# Altium footprint library SamacSys.PcbLib: 3 footprints
Each footprint in its own frame and in the unit in brackets; x right, y up, seen from the top. Pads: shape width x height; smd on the part's side, far side on the other; paste and mask are expansions set on the pad; w line width, h text height; cw(c..) or ccw(c..) is an arc to the next point about the centre after c.
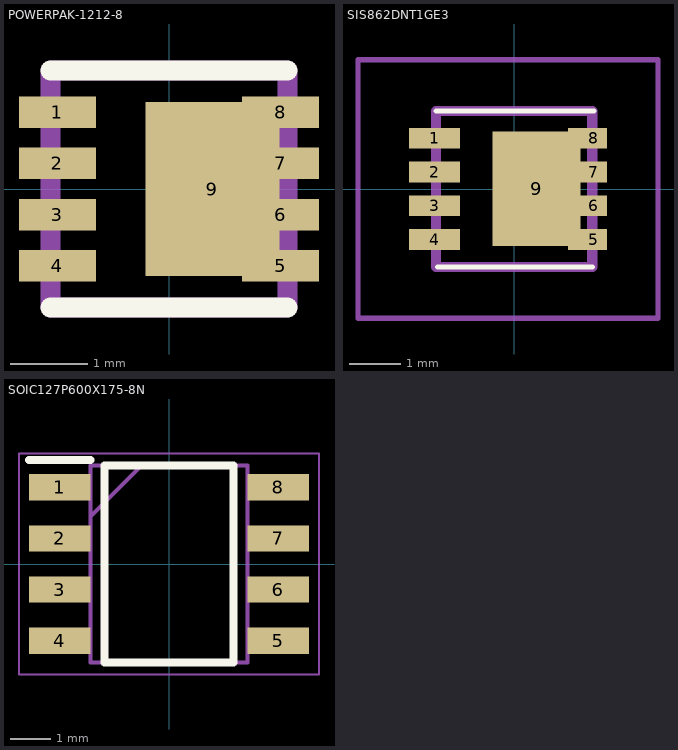
[diagram p0: the footprints below, top view; thin cyan lines are the x and y axes]

## POWERPAK-1212-8 [mm]
pads (9):
  rect 0.99x0.405 smd: 1(-1.435,0.99) 2(-1.435,0.33) 3(-1.435,-0.33) 4(-1.435,-0.99) 5(1.435,-0.99) 6(1.435,-0.33) 7(1.435,0.33) 8(1.435,0.99)
  rect 1.725x2.235 smd: 9(0.557,0)
Top Overlay:
  lines w0.254: -1.525,-1.525 1.525,-1.525 ; -1.525,1.525 1.525,1.525
Mechanical 13:
  lines w0.254: -1.525,-1.525 -1.525,1.525 1.525,1.525 1.525,-1.525 -1.525,-1.525

## SIS862DNT1GE3 [mm]
pads (11):
  rect 0.99x0.405 smd: 1(-1.555,0.992) 2(-1.555,0.332) 3(-1.555,-0.328) 4(-1.555,-0.988)
  rect 0.51x0.405 smd: 5(1.555,-0.988) 6(1.555,-0.328) 7(1.555,0.332) 8(1.555,0.992)
  rect 1.725x2.235 smd: 9(0.438,0.002)
  rect 0.25x0.077 smd: 10(1.175,-1.156) 11(1.175,1.156)
Top Overlay:
  lines w0.1: -1.525,1.525 1.555,1.525 ; -1.5,-1.525 1.525,-1.525
Mechanical 13:
  lines w0.2: -1.525,-1.525 -1.525,1.525 1.525,1.525 1.525,-1.525 -1.525,-1.525
Mechanical 15:
  lines w0.1: -3.05,-2.525 -3.05,2.525 2.81,2.525 2.81,-2.525 -3.05,-2.525
3D body "SI7655DN-T1-GE3.stp": height 1.65, standoff -1.65, extent -1.655,-0.02 1.655,1.04

## SOIC127P600X175-8N [mm]
pads (8):
  rect 1.525x0.65 smd: 1(-2.712,1.905) 2(-2.712,0.635) 3(-2.712,-0.635) 4(-2.712,-1.905) 5(2.712,-1.905) 6(2.712,-0.635) 7(2.712,0.635) 8(2.712,1.905)
Top Overlay:
  lines w0.2: -3.475,2.58 -1.95,2.58 ; -1.6,-2.45 -1.6,2.45 1.6,2.45 1.6,-2.45 -1.6,-2.45
Mechanical 13:
  lines w0.1: -1.95,1.18 -0.68,2.45 ; -1.95,-2.45 -1.95,2.45 1.95,2.45 1.95,-2.45 -1.95,-2.45
Mechanical 15:
  lines w0.05: -3.725,-2.75 -3.725,2.75 3.725,2.75 3.725,-2.75 -3.725,-2.75
3D body "NE555DR.stp": height 1.75, standoff 0, extent -3,-2.45 3,2.45